# Altium schematic symbol library ExampleSymbol.SchLib: 1 symbol
Pins are listed as number, name and electrical type; pins without a type are passive.

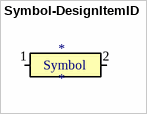
[diagram p0: symbol Symbol-DesignItemID]

## Symbol-DesignItemID
designator *
pins: 1 0, 2 0
text: Symbol